# EAGLE library part MT25W8MW16BA (library IC)
Micron MT45W8MW16BA 8Mb Cellular Ram
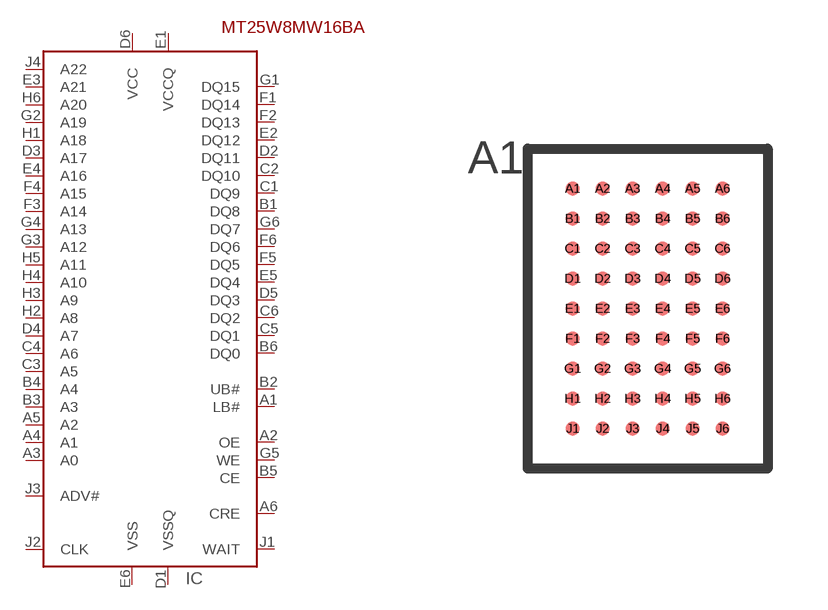
[diagram p114: symbol with the pads of VFBGA54; footprint VFBGA54]

Designator prefix IC

## MT25W8MW16BA  [VFBGA54]
A1  LB#  in
A2  OE
A3  A0  in
A4  A1  in
A5  A2  in
A6  CRE  in
B1  DQ8
B2  UB#  in
B3  A3  in
B4  A4  in
B5  CE
B6  DQ0
C1  DQ9
C2  DQ10
C3  A5  in
C4  A6  in
C5  DQ1
C6  DQ2
D1  VSSQ  pwr
D2  DQ11
D3  A17  in
D4  A7  in
D5  DQ3
D6  VCC  pwr
E1  VCCQ  pwr
E2  DQ12
E3  A21  in
E4  A16  in
E5  DQ4
E6  VSS  pwr
F1  DQ14
F2  DQ13
F3  A14  in
F4  A15  in
F5  DQ5
F6  DQ6
G1  DQ15
G2  A19  in
G3  A12  in
G4  A13  in
G5  WE
G6  DQ7
H1  A18  in
H2  A8  in
H3  A9  in
H4  A10  in
H5  A11  in
H6  A20  in
J1  WAIT  out
J2  CLK  in
J3  ADV#  in
J4  A22  in

## Footprint VFBGA54 (pad centres in mm)
54-Ball VFBGA (Micron)
smd 0.35 x 0.35: A1 -1.875,3; A2 -1.125,3; A3 -0.375,3; A4 0.375,3; A5 1.125,3; A6 1.875,3; B1 -1.875,2.25; B2 -1.125,2.25; B3 -0.375,2.25; B4 0.375,2.25; B5 1.125,2.25; B6 1.875,2.25; C1 -1.875,1.5; C2 -1.125,1.5; C3 -0.375,1.5; C4 0.375,1.5; C5 1.125,1.5; C6 1.875,1.5; D1 -1.875,0.75; D2 -1.125,0.75; D3 -0.375,0.75; D4 0.375,0.75; D5 1.125,0.75; D6 1.875,0.75; E1 -1.875,0; E2 -1.125,0; E3 -0.375,0; E4 0.375,0; E5 1.125,0; E6 1.875,0; F1 -1.875,-0.75; F2 -1.125,-0.75; F3 -0.375,-0.75; F4 0.375,-0.75; F5 1.125,-0.75; F6 1.875,-0.75; G1 -1.875,-1.5; G2 -1.125,-1.5; G3 -0.375,-1.5; G4 0.375,-1.5; G5 1.125,-1.5; G6 1.875,-1.5; H1 -1.875,-2.25; H2 -1.125,-2.25; H3 -0.375,-2.25; H4 0.375,-2.25; H5 1.125,-2.25; H6 1.875,-2.25; J1 -1.875,-3; J2 -1.125,-3; J3 -0.375,-3; J4 0.375,-3; J5 1.125,-3; J6 1.875,-3